# Altium footprint library 3v3_USB -MCP1700T.PcbLib: 3 footprints
Each footprint in its own frame and in the unit in brackets; x right, y up, seen from the top. Pads: shape width x height; smd on the part's side, far side on the other; paste and mask are expansions set on the pad; w line width, h text height; cw(c..) or ccw(c..) is an arc to the next point about the centre after c.
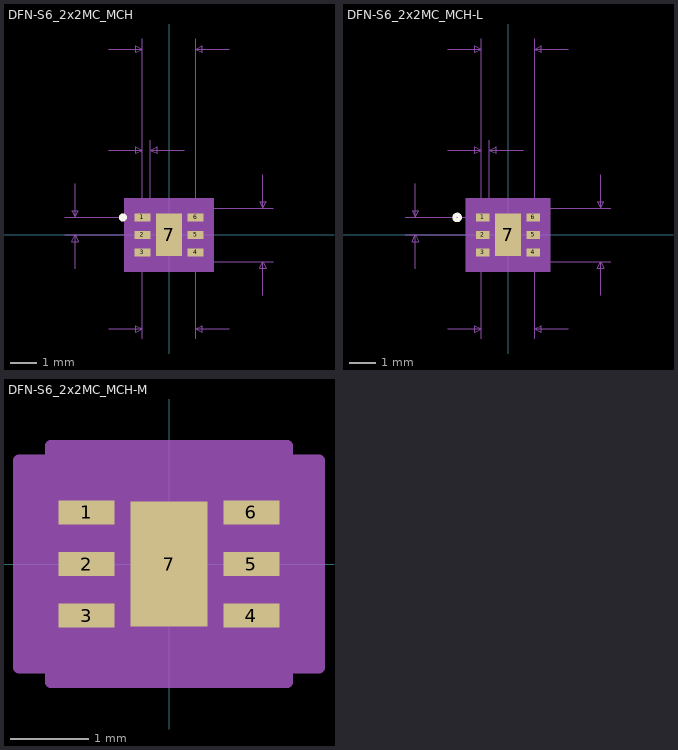
[diagram p0: the footprints below, top view; thin cyan lines are the x and y axes]

## DFN-S6_2x2MC_MCH [mil]
pads (7):
  rect 24x12 smd paste+0 mask+0: 1(-39.5,26) 2(-39.5,0) 3(-39.5,-26) 4(39.5,-26) 5(39.5,0) 6(39.5,26)
  rect 39x63 smd paste+0 mask+0: 7(0,0)
Top Overlay:
  circle w6: c-68.5,26 r3
Mechanical 5:
  region: 66.5,-54.5 -66.5,-54.5 -66.5,54.5 66.5,54.5
Mechanical 7:
  lines w1: -154.5,0 -39.5,0 ; -154.5,26 -39.5,26 ; -139.5,-50 -139.5,0 ; -139.5,76 -139.5,26 ; -89.5,-139.5 -39.5,-139.5 ; -89.5,126 -39.5,126 ; -89.5,276 -39.5,276 ; -39.5,-154.5 -39.5,-39.5 ; -39.5,141 -39.5,26 ; -39.5,291 -39.5,26 ; -27.5,26 -27.5,141 ; 22.5,126 -27.5,126 ; 39.5,-154.5 39.5,-39.5 154.5,-39.5 ; 39.5,26 39.5,291 ; 39.5,39.5 154.5,39.5 ; 89.5,-139.5 39.5,-139.5 ; 89.5,276 39.5,276 ; 139.5,-89.5 139.5,-39.5 ; 139.5,89.5 139.5,39.5 ; -139.5,0 -144.5,-10 -134.5,-10 -139.5,0 ; -139.5,26 -144.5,36 -134.5,36 -139.5,26 ; -39.5,-139.5 -49.5,-134.5 -49.5,-144.5 -39.5,-139.5 ; -39.5,126 -49.5,131 -49.5,121 -39.5,126 ; -39.5,276 -49.5,281 -49.5,271 -39.5,276 ; -27.5,126 -17.5,131 -17.5,121 -27.5,126 ; 39.5,-139.5 49.5,-134.5 49.5,-144.5 39.5,-139.5 ; 39.5,276 49.5,281 49.5,271 39.5,276 ; 139.5,-39.5 134.5,-49.5 144.5,-49.5 139.5,-39.5 ; 139.5,39.5 134.5,49.5 144.5,49.5 139.5,39.5
  text "Default Padstyle: RX24Y12D0T" at -350,-409.5 h50
  text "Heat Tab Padstyle: RX39Y63D0T" at -362.5,-469.5 h50
  text "Alt 1 Padstyle: OX60Y90D30P" at -337.5,-589.5 h50
  text "Alt 2 Padstyle: OX90Y60D30P" at -337.5,-649.5 h50
  text "0.079in/2.007mm" at -93.75,296 h25
  text "0.012in/0.305mm" at -127.25,146 h25
  text "0.026in/0.66mm" at -334.5,0.5 h25
  text "0.079in/2.007mm" at 159.5,-12.5 h25
  text "0.079in/2.007mm" at -93.75,-184.5 h25
Mechanical 13:
  lines w0: -12,39.5 ccw(c0,39.5) 12,39.5
  lines w1: -39.5,-39.5 39.5,-39.5 39.5,39.5 -39.5,39.5 -39.5,-39.5
Mechanical 15:
  region: -49.5,-42 -61.5,-42 -61.5,42 -49.5,42 -49.5,49.5 49.5,49.5 49.5,42 61.5,42 61.5,-42 49.5,-42 49.5,-49.5 -49.5,-49.5
  lines w6: -61.5,-42 -61.5,42 -49.5,42 -49.5,49.5 49.5,49.5 49.5,42 61.5,42 61.5,-42 49.5,-42 49.5,-49.5 -49.5,-49.5 -49.5,-42 -61.5,-42
3D body: height 10, standoff 0, extent 0,0 10,10

## DFN-S6_2x2MC_MCH-L [mil]
pads (7):
  rect 20x12 smd paste+0 mask+0: 1(-37.5,26) 2(-37.5,0) 3(-37.5,-26) 4(37.5,-26) 5(37.5,0) 6(37.5,26)
  rect 39x63 smd paste+0 mask+0: 7(0,0)
Top Overlay:
  circle w6: c-75.5,26 r4
Mechanical 5:
  region: 62.5,-54.5 -62.5,-54.5 -62.5,54.5 62.5,54.5
Mechanical 7:
  lines w1: -152.5,0 -37.5,0 ; -152.5,26 -37.5,26 ; -137.5,-50 -137.5,0 ; -137.5,76 -137.5,26 ; -89.5,-139.5 -39.5,-139.5 ; -89.5,126 -39.5,126 ; -89.5,276 -39.5,276 ; -39.5,-154.5 -39.5,-39.5 ; -39.5,141 -39.5,26 -39.5,291 ; -27.5,26 -27.5,141 ; 22.5,126 -27.5,126 ; 39.5,-154.5 39.5,-39.5 152.5,-39.5 ; 39.5,26 39.5,291 ; 39.5,39.5 152.5,39.5 ; 89.5,-139.5 39.5,-139.5 ; 89.5,276 39.5,276 ; 137.5,-89.5 137.5,-39.5 ; 137.5,89.5 137.5,39.5 ; -137.5,0 -142.5,-10 -132.5,-10 -137.5,0 ; -137.5,26 -142.5,36 -132.5,36 -137.5,26 ; -39.5,-139.5 -49.5,-134.5 -49.5,-144.5 -39.5,-139.5 ; -39.5,126 -49.5,131 -49.5,121 -39.5,126 ; -39.5,276 -49.5,281 -49.5,271 -39.5,276 ; -27.5,126 -17.5,131 -17.5,121 -27.5,126 ; 39.5,-139.5 49.5,-134.5 49.5,-144.5 39.5,-139.5 ; 39.5,276 49.5,281 49.5,271 39.5,276 ; 137.5,-39.5 132.5,-49.5 142.5,-49.5 137.5,-39.5 ; 137.5,39.5 132.5,49.5 142.5,49.5 137.5,39.5
  text "Default Padstyle: RX20Y12D0T" at -350,-409.5 h50
  text "Heat Tab Padstyle: RX39Y63D0T" at -362.5,-469.5 h50
  text "Alt 1 Padstyle: OX60Y90D30P" at -337.5,-589.5 h50
  text "Alt 2 Padstyle: OX90Y60D30P" at -337.5,-649.5 h50
  text "0.079in/2.007mm" at -93.75,296 h25
  text "0.012in/0.305mm" at -127.25,146 h25
  text "0.026in/0.66mm" at -332.5,0.5 h25
  text "0.079in/2.007mm" at 157.5,-12.5 h25
  text "0.079in/2.007mm" at -93.75,-184.5 h25
Mechanical 13:
  circle w0: c-27.5,26 r3
  lines w0: -12,39.5 ccw(c0,39.5) 12,39.5
  lines w1: -39.5,-39.5 39.5,-39.5 39.5,39.5 -39.5,39.5 -39.5,-39.5
Mechanical 15:
  region: -43.5,-36 -51.5,-36 -51.5,36 -43.5,36 -43.5,43.5 43.5,43.5 43.5,36 51.5,36 51.5,-36 43.5,-36 43.5,-43.5 -43.5,-43.5
  lines w6: -51.5,-36 -51.5,36 -43.5,36 -43.5,43.5 43.5,43.5 43.5,36 51.5,36 51.5,-36 43.5,-36 43.5,-43.5 -43.5,-43.5 -43.5,-36 -51.5,-36
3D body: height 10, standoff 0, extent 0,0 10,10

## DFN-S6_2x2MC_MCH-M [mil]
pads (7):
  rect 28x12 smd paste+0 mask+0: 1(-41.5,26) 2(-41.5,0) 3(-41.5,-26) 4(41.5,-26) 5(41.5,0) 6(41.5,26)
  rect 39x63 smd paste+0 mask+0: 7(0,0)
Mechanical 5:
  region: 70.5,-54.5 -70.5,-54.5 -70.5,54.5 70.5,54.5
Mechanical 13:
  lines w1: -39.5,-39.5 -39.5,39.5 39.5,39.5 39.5,-39.5 -39.5,-39.5
Mechanical 15:
  region: -59.5,-52 -75.5,-52 -75.5,52 -59.5,52 -59.5,59.5 59.5,59.5 59.5,52 75.5,52 75.5,-52 59.5,-52 59.5,-59.5 -59.5,-59.5
  lines w6: -75.5,-52 -59.5,-52 -59.5,-59.5 59.5,-59.5 59.5,-52 75.5,-52 75.5,52 59.5,52 59.5,59.5 -59.5,59.5 -59.5,52 -75.5,52 -75.5,-52
3D body "DFN-S6_2x2MC_MCH.step": height 35.12, standoff 0, extent -39.48,-39.48 39.49,39.49